# EAGLE library part BC127 (library ICs)
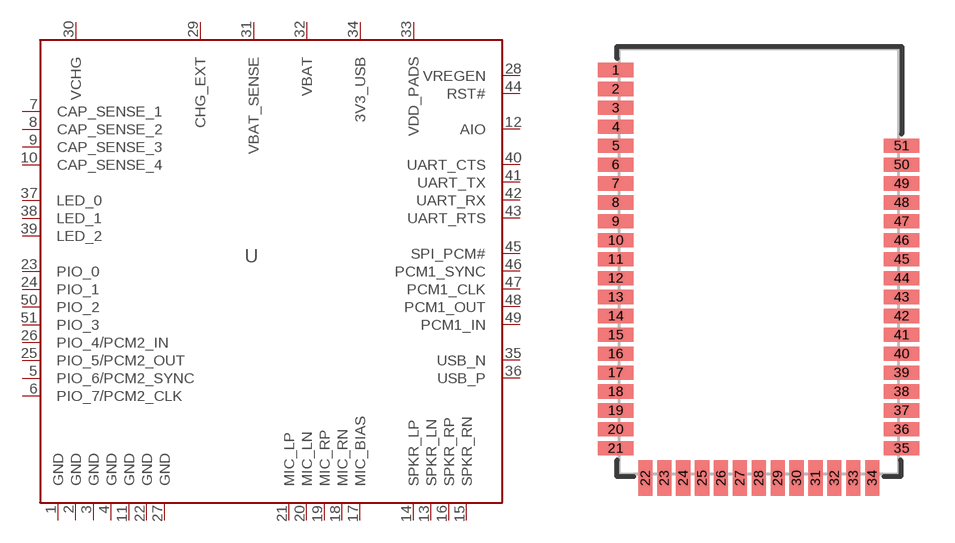
[diagram p10: symbol with the pads of BC127; footprint BC127]

Designator prefix -

## BC127  [BC127]
1  GND
2  GND
3  GND
4  GND
5  PIO_6/PCM2_SYNC
6  PIO_7/PCM2_CLK
7  CAP_SENSE_1  in
8  CAP_SENSE_2  in
9  CAP_SENSE_3  in
10  CAP_SENSE_4  in
11  GND
12  AIO
13  SPKR_LN  out
14  SPKR_LP  out
15  SPKR_RN  out
16  SPKR_RP  out
17  MIC_BIAS  in
18  MIC_RN  in
19  MIC_RP  in
20  MIC_LN  in
21  MIC_LP  in
22  GND
23  PIO_0
24  PIO_1
25  PIO_5/PCM2_OUT
26  PIO_4/PCM2_IN
27  GND
28  VREGEN  out
29  CHG_EXT  pwr
30  VCHG  pwr
31  VBAT_SENSE  pwr
32  VBAT
33  VDD_PADS  pwr
34  3V3_USB  pwr
35  USB_N
36  USB_P
37  LED_0  out
38  LED_1  out
39  LED_2  out
40  UART_CTS  in
41  UART_TX  out
42  UART_RX  in
43  UART_RTS  out
44  RST#  in
45  SPI_PCM#  in
46  PCM1_SYNC
47  PCM1_CLK
48  PCM1_OUT
49  PCM1_IN
50  PIO_2
51  PIO_3

## Footprint BC127 (pad centres in mm)
BC127 Bluetooth 4.0 Audio Module 11.8x18mm module. Extra tCream on pads. Datasheet <https://www.bluecreation.com/userfiles/DataSheet-BC127-latest3.pdf>
smd 1.5 x 0.6: 1 -6.05,8.1; 2 -6.05,7.3; 3 -6.05,6.5; 4 -6.05,5.7; 5 -6.05,4.9; 6 -6.05,4.1; 7 -6.05,3.3; 8 -6.05,2.5; 9 -6.05,1.7; 10 -6.05,0.9; 11 -6.05,0.1; 12 -6.05,-0.7; 13 -6.05,-1.5; 14 -6.05,-2.3; 15 -6.05,-3.1; 16 -6.05,-3.9; 17 -6.05,-4.7; 18 -6.05,-5.5; 19 -6.05,-6.3; 20 -6.05,-7.1; 21 -6.05,-7.9; 35 6.05,-7.9; 36 6.05,-7.1; 37 6.05,-6.3; 38 6.05,-5.5; 39 6.05,-4.7; 40 6.05,-3.9; 41 6.05,-3.1; 42 6.05,-2.3; 43 6.05,-1.5; 44 6.05,-0.7; 45 6.05,0.1; 46 6.05,0.9; 47 6.05,1.7; 48 6.05,2.5; 49 6.05,3.3; 50 6.05,4.1; 51 6.05,4.9
smd 0.6 x 1.5: 22 -4.8,-9.15; 23 -4,-9.15; 24 -3.2,-9.15; 25 -2.4,-9.15; 26 -1.6,-9.15; 27 -0.8,-9.15; 28 0,-9.15; 29 0.8,-9.15; 30 1.6,-9.15; 31 2.4,-9.15; 32 3.2,-9.15; 33 4,-9.15; 34 4.8,-9.15